# Altium integrated library ST Memory EEPROM Serial.IntLib: 637 symbols (part 2 of 7)
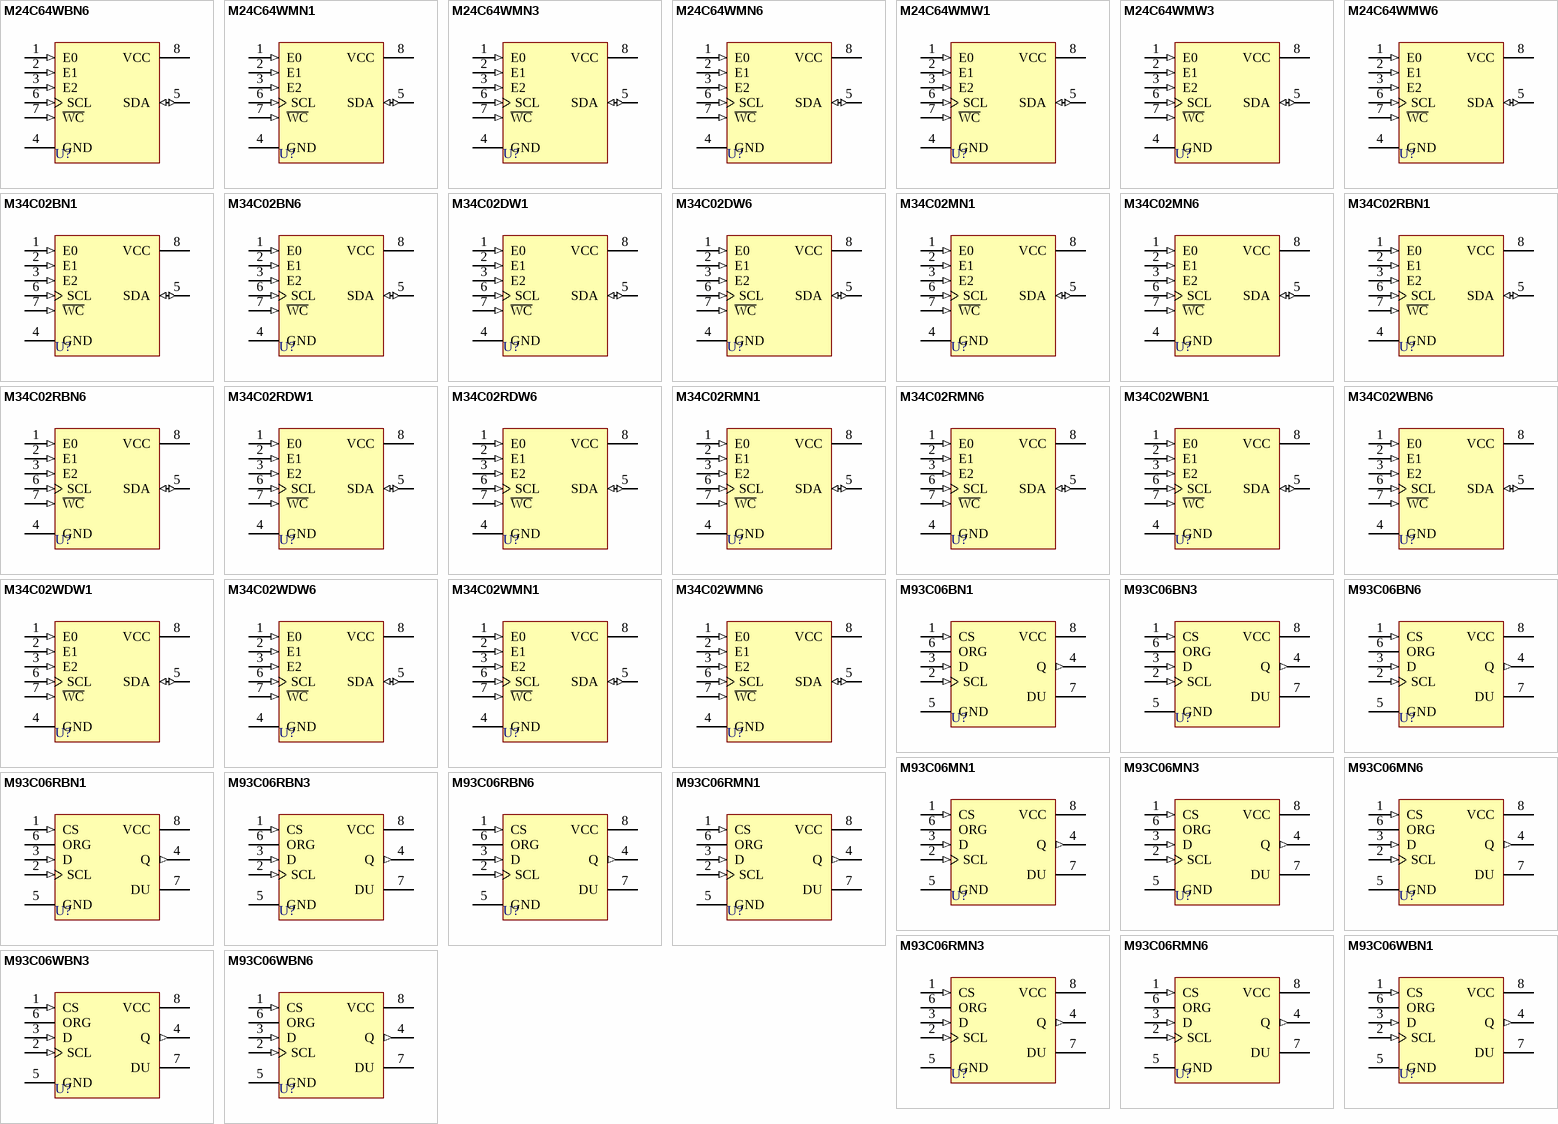
[diagram p16: symbols M24C64WBN6 to M93C06WBN6]

## M93C06MN1
designator U?
256Kb (x8/x16) Serial Microwire Bus EEPROM; Note: Do Not Use pin number 7 (DU).; Published: 24-Aug-2001; LatestRevisionDate: 17-Jul-2002; LatestRevisionNote: Re-released for DXP Platform.; DatasheetDocument: Feb-1999; PackageDocument: Jul-1999; PackageReference: SOP8; Publisher: Altium Limited
footprint SOP8 (Small Outline; 8 Leads; Body Width 3.9 mm; Pitch 1.27 mm)
pins: 1 CS (in), 2 SCL (in), 3 D (in), 4 Q (out), 5 GND (power), 6 ORG, 7 DU, 8 VCC (power)

## M93C06MN3
designator U?
256Kb (x8/x16) Serial Microwire Bus EEPROM; Note: Do Not Use pin number 7 (DU).; Published: 24-Aug-2001; LatestRevisionDate: 17-Jul-2002; LatestRevisionNote: Re-released for DXP Platform.; DatasheetDocument: Feb-1999; PackageDocument: Jul-1999; PackageReference: SOP8; Publisher: Altium Limited
footprint SOP8 (Small Outline; 8 Leads; Body Width 3.9 mm; Pitch 1.27 mm)
pins: 1 CS (in), 2 SCL (in), 3 D (in), 4 Q (out), 5 GND (power), 6 ORG, 7 DU, 8 VCC (power)

## M93C06MN6
designator U?
256Kb (x8/x16) Serial Microwire Bus EEPROM; Note: Do Not Use pin number 7 (DU).; Published: 24-Aug-2001; LatestRevisionDate: 17-Jul-2002; LatestRevisionNote: Re-released for DXP Platform.; DatasheetDocument: Feb-1999; PackageDocument: Jul-1999; PackageReference: SOP8; Publisher: Altium Limited
footprint SOP8 (Small Outline; 8 Leads; Body Width 3.9 mm; Pitch 1.27 mm)
pins: 1 CS (in), 2 SCL (in), 3 D (in), 4 Q (out), 5 GND (power), 6 ORG, 7 DU, 8 VCC (power)

## M93C06RBN1
designator U?
256Kb (x8/x16) Serial Microwire Bus EEPROM; Note: Do Not Use pin number 7 (DU).; Published: 24-Aug-2001; LatestRevisionDate: 17-Jul-2002; LatestRevisionNote: Re-released for DXP Platform.; DatasheetDocument: Feb-1999; PackageDocument: Jun-1998; PackageReference: PSDIP8A; Publisher: Altium Limited
footprint PSDIP8A (DIP; 8 Leads; Row Spacing 7.62 mm; Pitch 2.54 mm)
pins: 1 CS (in), 2 SCL (in), 3 D (in), 4 Q (out), 5 GND (power), 6 ORG, 7 DU, 8 VCC (power)

## M93C06RBN3
designator U?
256Kb (x8/x16) Serial Microwire Bus EEPROM; Note: Do Not Use pin number 7 (DU).; Published: 24-Aug-2001; LatestRevisionDate: 17-Jul-2002; LatestRevisionNote: Re-released for DXP Platform.; DatasheetDocument: Feb-1999; PackageDocument: Jun-1998; PackageReference: PSDIP8A; Publisher: Altium Limited
footprint PSDIP8A (DIP; 8 Leads; Row Spacing 7.62 mm; Pitch 2.54 mm)
pins: 1 CS (in), 2 SCL (in), 3 D (in), 4 Q (out), 5 GND (power), 6 ORG, 7 DU, 8 VCC (power)

## M93C06RBN6
designator U?
256Kb (x8/x16) Serial Microwire Bus EEPROM; Note: Do Not Use pin number 7 (DU).; Published: 24-Aug-2001; LatestRevisionDate: 17-Jul-2002; LatestRevisionNote: Re-released for DXP Platform.; DatasheetDocument: Feb-1999; PackageDocument: Jun-1998; PackageReference: PSDIP8A; Publisher: Altium Limited
footprint PSDIP8A (DIP; 8 Leads; Row Spacing 7.62 mm; Pitch 2.54 mm)
pins: 1 CS (in), 2 SCL (in), 3 D (in), 4 Q (out), 5 GND (power), 6 ORG, 7 DU, 8 VCC (power)

## M93C06RMN1
designator U?
256Kb (x8/x16) Serial Microwire Bus EEPROM; Note: Do Not Use pin number 7 (DU).; Published: 24-Aug-2001; LatestRevisionDate: 17-Jul-2002; LatestRevisionNote: Re-released for DXP Platform.; DatasheetDocument: Feb-1999; PackageDocument: Jul-1999; PackageReference: SOP8; Publisher: Altium Limited
footprint SOP8 (Small Outline; 8 Leads; Body Width 3.9 mm; Pitch 1.27 mm)
pins: 1 CS (in), 2 SCL (in), 3 D (in), 4 Q (out), 5 GND (power), 6 ORG, 7 DU, 8 VCC (power)

## M93C06RMN3
designator U?
256Kb (x8/x16) Serial Microwire Bus EEPROM; Note: Do Not Use pin number 7 (DU).; Published: 24-Aug-2001; LatestRevisionDate: 17-Jul-2002; LatestRevisionNote: Re-released for DXP Platform.; DatasheetDocument: Feb-1999; PackageDocument: Jul-1999; PackageReference: SOP8; Publisher: Altium Limited
footprint SOP8 (Small Outline; 8 Leads; Body Width 3.9 mm; Pitch 1.27 mm)
pins: 1 CS (in), 2 SCL (in), 3 D (in), 4 Q (out), 5 GND (power), 6 ORG, 7 DU, 8 VCC (power)

## M93C06RMN6
designator U?
256Kb (x8/x16) Serial Microwire Bus EEPROM; Note: Do Not Use pin number 7 (DU).; Published: 24-Aug-2001; LatestRevisionDate: 17-Jul-2002; LatestRevisionNote: Re-released for DXP Platform.; DatasheetDocument: Feb-1999; PackageDocument: Jul-1999; PackageReference: SOP8; Publisher: Altium Limited
footprint SOP8 (Small Outline; 8 Leads; Body Width 3.9 mm; Pitch 1.27 mm)
pins: 1 CS (in), 2 SCL (in), 3 D (in), 4 Q (out), 5 GND (power), 6 ORG, 7 DU, 8 VCC (power)

## M93C06WBN1
designator U?
256Kb (x8/x16) Serial Microwire Bus EEPROM; Note: Do Not Use pin number 7 (DU).; Published: 24-Aug-2001; LatestRevisionDate: 17-Jul-2002; LatestRevisionNote: Re-released for DXP Platform.; DatasheetDocument: Feb-1999; PackageDocument: Jun-1998; PackageReference: PSDIP8A; Publisher: Altium Limited
footprint PSDIP8A (DIP; 8 Leads; Row Spacing 7.62 mm; Pitch 2.54 mm)
pins: 1 CS (in), 2 SCL (in), 3 D (in), 4 Q (out), 5 GND (power), 6 ORG, 7 DU, 8 VCC (power)

## M93C06WBN3
designator U?
256Kb (x8/x16) Serial Microwire Bus EEPROM; Note: Do Not Use pin number 7 (DU).; Published: 24-Aug-2001; LatestRevisionDate: 17-Jul-2002; LatestRevisionNote: Re-released for DXP Platform.; DatasheetDocument: Feb-1999; PackageDocument: Jun-1998; PackageReference: PSDIP8A; Publisher: Altium Limited
footprint PSDIP8A (DIP; 8 Leads; Row Spacing 7.62 mm; Pitch 2.54 mm)
pins: 1 CS (in), 2 SCL (in), 3 D (in), 4 Q (out), 5 GND (power), 6 ORG, 7 DU, 8 VCC (power)

## M93C06WBN6
designator U?
256Kb (x8/x16) Serial Microwire Bus EEPROM; Note: Do Not Use pin number 7 (DU).; Published: 24-Aug-2001; LatestRevisionDate: 17-Jul-2002; LatestRevisionNote: Re-released for DXP Platform.; DatasheetDocument: Feb-1999; PackageDocument: Jun-1998; PackageReference: PSDIP8A; Publisher: Altium Limited
footprint PSDIP8A (DIP; 8 Leads; Row Spacing 7.62 mm; Pitch 2.54 mm)
pins: 1 CS (in), 2 SCL (in), 3 D (in), 4 Q (out), 5 GND (power), 6 ORG, 7 DU, 8 VCC (power)

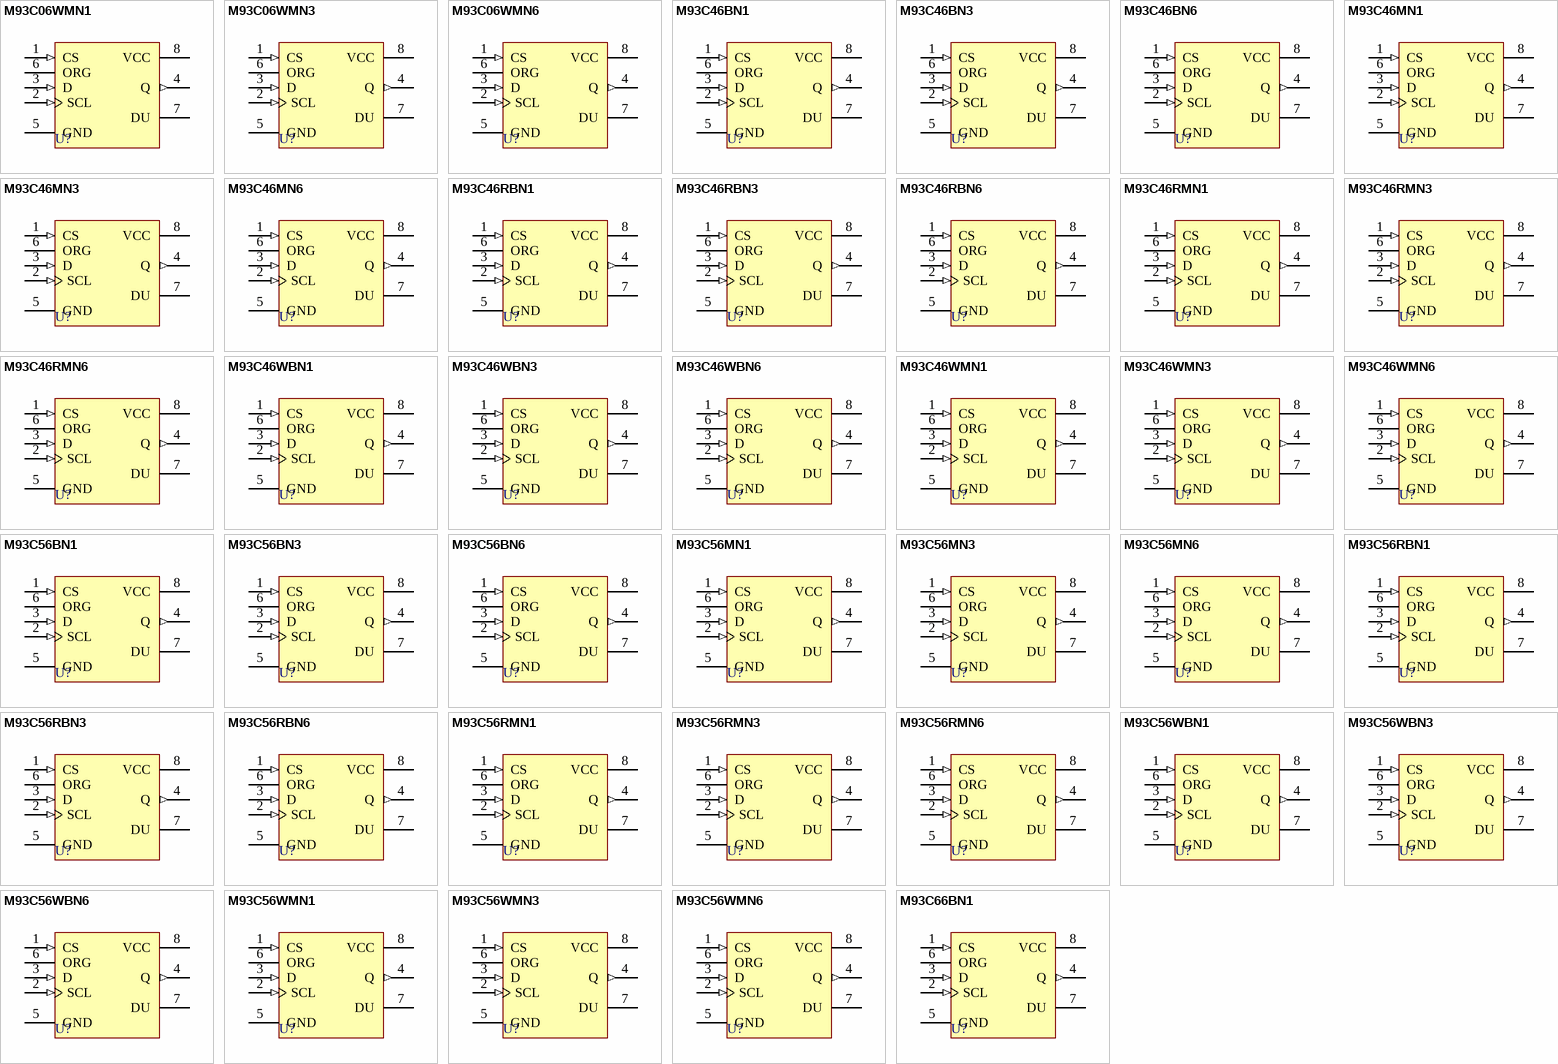
[diagram p3: symbols M93C06WMN1 to M93C66BN1]

## M93C06WMN1
designator U?
256Kb (x8/x16) Serial Microwire Bus EEPROM; Note: Do Not Use pin number 7 (DU).; Published: 24-Aug-2001; LatestRevisionDate: 17-Jul-2002; LatestRevisionNote: Re-released for DXP Platform.; DatasheetDocument: Feb-1999; PackageDocument: Jul-1999; PackageReference: SOP8; Publisher: Altium Limited
footprint SOP8 (Small Outline; 8 Leads; Body Width 3.9 mm; Pitch 1.27 mm)
pins: 1 CS (in), 2 SCL (in), 3 D (in), 4 Q (out), 5 GND (power), 6 ORG, 7 DU, 8 VCC (power)

## M93C06WMN3
designator U?
256Kb (x8/x16) Serial Microwire Bus EEPROM; Note: Do Not Use pin number 7 (DU).; Published: 24-Aug-2001; LatestRevisionDate: 17-Jul-2002; LatestRevisionNote: Re-released for DXP Platform.; DatasheetDocument: Feb-1999; PackageDocument: Jul-1999; PackageReference: SOP8; Publisher: Altium Limited
footprint SOP8 (Small Outline; 8 Leads; Body Width 3.9 mm; Pitch 1.27 mm)
pins: 1 CS (in), 2 SCL (in), 3 D (in), 4 Q (out), 5 GND (power), 6 ORG, 7 DU, 8 VCC (power)

## M93C06WMN6
designator U?
256Kb (x8/x16) Serial Microwire Bus EEPROM; Note: Do Not Use pin number 7 (DU).; Published: 24-Aug-2001; LatestRevisionDate: 17-Jul-2002; LatestRevisionNote: Re-released for DXP Platform.; DatasheetDocument: Feb-1999; PackageDocument: Jul-1999; PackageReference: SOP8; Publisher: Altium Limited
footprint SOP8 (Small Outline; 8 Leads; Body Width 3.9 mm; Pitch 1.27 mm)
pins: 1 CS (in), 2 SCL (in), 3 D (in), 4 Q (out), 5 GND (power), 6 ORG, 7 DU, 8 VCC (power)

## M93C46BN1
designator U?
1Kb (x8/x16) Serial Microwire Bus EEPROM; Note: Do Not Use pin number 7 (DU).; Published: 24-Aug-2001; LatestRevisionDate: 17-Jul-2002; LatestRevisionNote: Re-released for DXP Platform.; DatasheetDocument: Feb-1999; PackageDocument: Jun-1998; PackageReference: PSDIP8A; Publisher: Altium Limited
footprint PSDIP8A (DIP; 8 Leads; Row Spacing 7.62 mm; Pitch 2.54 mm)
pins: 1 CS (in), 2 SCL (in), 3 D (in), 4 Q (out), 5 GND (power), 6 ORG, 7 DU, 8 VCC (power)

## M93C46BN3
designator U?
1Kb (x8/x16) Serial Microwire Bus EEPROM; Note: Do Not Use pin number 7 (DU).; Published: 24-Aug-2001; LatestRevisionDate: 17-Jul-2002; LatestRevisionNote: Re-released for DXP Platform.; DatasheetDocument: Feb-1999; PackageDocument: Jun-1998; PackageReference: PSDIP8A; Publisher: Altium Limited
footprint PSDIP8A (DIP; 8 Leads; Row Spacing 7.62 mm; Pitch 2.54 mm)
pins: 1 CS (in), 2 SCL (in), 3 D (in), 4 Q (out), 5 GND (power), 6 ORG, 7 DU, 8 VCC (power)

## M93C46BN6
designator U?
1Kb (x8/x16) Serial Microwire Bus EEPROM; Note: Do Not Use pin number 7 (DU).; Published: 24-Aug-2001; LatestRevisionDate: 17-Jul-2002; LatestRevisionNote: Re-released for DXP Platform.; DatasheetDocument: Feb-1999; PackageDocument: Jun-1998; PackageReference: PSDIP8A; Publisher: Altium Limited
footprint PSDIP8A (DIP; 8 Leads; Row Spacing 7.62 mm; Pitch 2.54 mm)
pins: 1 CS (in), 2 SCL (in), 3 D (in), 4 Q (out), 5 GND (power), 6 ORG, 7 DU, 8 VCC (power)

## M93C46MN1
designator U?
1Kb (x8/x16) Serial Microwire Bus EEPROM; Note: Do Not Use pin number 7 (DU).; Published: 24-Aug-2001; LatestRevisionDate: 17-Jul-2002; LatestRevisionNote: Re-released for DXP Platform.; DatasheetDocument: Feb-1999; PackageDocument: Jul-1999; PackageReference: SOP8; Publisher: Altium Limited
footprint SOP8 (Small Outline; 8 Leads; Body Width 3.9 mm; Pitch 1.27 mm)
pins: 1 CS (in), 2 SCL (in), 3 D (in), 4 Q (out), 5 GND (power), 6 ORG, 7 DU, 8 VCC (power)

## M93C46MN3
designator U?
1Kb (x8/x16) Serial Microwire Bus EEPROM; Note: Do Not Use pin number 7 (DU).; Published: 24-Aug-2001; LatestRevisionDate: 17-Jul-2002; LatestRevisionNote: Re-released for DXP Platform.; DatasheetDocument: Feb-1999; PackageDocument: Jul-1999; PackageReference: SOP8; Publisher: Altium Limited
footprint SOP8 (Small Outline; 8 Leads; Body Width 3.9 mm; Pitch 1.27 mm)
pins: 1 CS (in), 2 SCL (in), 3 D (in), 4 Q (out), 5 GND (power), 6 ORG, 7 DU, 8 VCC (power)

## M93C46MN6
designator U?
1Kb (x8/x16) Serial Microwire Bus EEPROM; Note: Do Not Use pin number 7 (DU).; Published: 24-Aug-2001; LatestRevisionDate: 17-Jul-2002; LatestRevisionNote: Re-released for DXP Platform.; DatasheetDocument: Feb-1999; PackageDocument: Jul-1999; PackageReference: SOP8; Publisher: Altium Limited
footprint SOP8 (Small Outline; 8 Leads; Body Width 3.9 mm; Pitch 1.27 mm)
pins: 1 CS (in), 2 SCL (in), 3 D (in), 4 Q (out), 5 GND (power), 6 ORG, 7 DU, 8 VCC (power)

## M93C46RBN1
designator U?
1Kb (x8/x16) Serial Microwire Bus EEPROM; Note: Do Not Use pin number 7 (DU).; Published: 24-Aug-2001; LatestRevisionDate: 17-Jul-2002; LatestRevisionNote: Re-released for DXP Platform.; DatasheetDocument: Feb-1999; PackageDocument: Jun-1998; PackageReference: PSDIP8A; Publisher: Altium Limited
footprint PSDIP8A (DIP; 8 Leads; Row Spacing 7.62 mm; Pitch 2.54 mm)
pins: 1 CS (in), 2 SCL (in), 3 D (in), 4 Q (out), 5 GND (power), 6 ORG, 7 DU, 8 VCC (power)

## M93C46RBN3
designator U?
1Kb (x8/x16) Serial Microwire Bus EEPROM; Note: Do Not Use pin number 7 (DU).; Published: 24-Aug-2001; LatestRevisionDate: 17-Jul-2002; LatestRevisionNote: Re-released for DXP Platform.; DatasheetDocument: Feb-1999; PackageDocument: Jun-1998; PackageReference: PSDIP8A; Publisher: Altium Limited
footprint PSDIP8A (DIP; 8 Leads; Row Spacing 7.62 mm; Pitch 2.54 mm)
pins: 1 CS (in), 2 SCL (in), 3 D (in), 4 Q (out), 5 GND (power), 6 ORG, 7 DU, 8 VCC (power)

## M93C46RBN6
designator U?
1Kb (x8/x16) Serial Microwire Bus EEPROM; Note: Do Not Use pin number 7 (DU).; Published: 24-Aug-2001; LatestRevisionDate: 17-Jul-2002; LatestRevisionNote: Re-released for DXP Platform.; DatasheetDocument: Feb-1999; PackageDocument: Jun-1998; PackageReference: PSDIP8A; Publisher: Altium Limited
footprint PSDIP8A (DIP; 8 Leads; Row Spacing 7.62 mm; Pitch 2.54 mm)
pins: 1 CS (in), 2 SCL (in), 3 D (in), 4 Q (out), 5 GND (power), 6 ORG, 7 DU, 8 VCC (power)

## M93C46RMN1
designator U?
1Kb (x8/x16) Serial Microwire Bus EEPROM; Note: Do Not Use pin number 7 (DU).; Published: 24-Aug-2001; LatestRevisionDate: 17-Jul-2002; LatestRevisionNote: Re-released for DXP Platform.; DatasheetDocument: Feb-1999; PackageDocument: Jul-1999; PackageReference: SOP8; Publisher: Altium Limited
footprint SOP8 (Small Outline; 8 Leads; Body Width 3.9 mm; Pitch 1.27 mm)
pins: 1 CS (in), 2 SCL (in), 3 D (in), 4 Q (out), 5 GND (power), 6 ORG, 7 DU, 8 VCC (power)

## M93C46RMN3
designator U?
1Kb (x8/x16) Serial Microwire Bus EEPROM; Note: Do Not Use pin number 7 (DU).; Published: 24-Aug-2001; LatestRevisionDate: 17-Jul-2002; LatestRevisionNote: Re-released for DXP Platform.; DatasheetDocument: Feb-1999; PackageDocument: Jul-1999; PackageReference: SOP8; Publisher: Altium Limited
footprint SOP8 (Small Outline; 8 Leads; Body Width 3.9 mm; Pitch 1.27 mm)
pins: 1 CS (in), 2 SCL (in), 3 D (in), 4 Q (out), 5 GND (power), 6 ORG, 7 DU, 8 VCC (power)

## M93C46RMN6
designator U?
1Kb (x8/x16) Serial Microwire Bus EEPROM; Note: Do Not Use pin number 7 (DU).; Published: 24-Aug-2001; LatestRevisionDate: 17-Jul-2002; LatestRevisionNote: Re-released for DXP Platform.; DatasheetDocument: Feb-1999; PackageDocument: Jul-1999; PackageReference: SOP8; Publisher: Altium Limited
footprint SOP8 (Small Outline; 8 Leads; Body Width 3.9 mm; Pitch 1.27 mm)
pins: 1 CS (in), 2 SCL (in), 3 D (in), 4 Q (out), 5 GND (power), 6 ORG, 7 DU, 8 VCC (power)

## M93C46WBN1
designator U?
1Kb (x8/x16) Serial Microwire Bus EEPROM; Note: Do Not Use pin number 7 (DU).; Published: 24-Aug-2001; LatestRevisionDate: 17-Jul-2002; LatestRevisionNote: Re-released for DXP Platform.; DatasheetDocument: Feb-1999; PackageDocument: Jun-1998; PackageReference: PSDIP8A; Publisher: Altium Limited
footprint PSDIP8A (DIP; 8 Leads; Row Spacing 7.62 mm; Pitch 2.54 mm)
pins: 1 CS (in), 2 SCL (in), 3 D (in), 4 Q (out), 5 GND (power), 6 ORG, 7 DU, 8 VCC (power)

## M93C46WBN3
designator U?
1Kb (x8/x16) Serial Microwire Bus EEPROM; Note: Do Not Use pin number 7 (DU).; Published: 24-Aug-2001; LatestRevisionDate: 17-Jul-2002; LatestRevisionNote: Re-released for DXP Platform.; DatasheetDocument: Feb-1999; PackageDocument: Jun-1998; PackageReference: PSDIP8A; Publisher: Altium Limited
footprint PSDIP8A (DIP; 8 Leads; Row Spacing 7.62 mm; Pitch 2.54 mm)
pins: 1 CS (in), 2 SCL (in), 3 D (in), 4 Q (out), 5 GND (power), 6 ORG, 7 DU, 8 VCC (power)

## M93C46WBN6
designator U?
1Kb (x8/x16) Serial Microwire Bus EEPROM; Note: Do Not Use pin number 7 (DU).; Published: 24-Aug-2001; LatestRevisionDate: 17-Jul-2002; LatestRevisionNote: Re-released for DXP Platform.; DatasheetDocument: Feb-1999; PackageDocument: Jun-1998; PackageReference: PSDIP8A; Publisher: Altium Limited
footprint PSDIP8A (DIP; 8 Leads; Row Spacing 7.62 mm; Pitch 2.54 mm)
pins: 1 CS (in), 2 SCL (in), 3 D (in), 4 Q (out), 5 GND (power), 6 ORG, 7 DU, 8 VCC (power)

## M93C46WMN1
designator U?
1Kb (x8/x16) Serial Microwire Bus EEPROM; Note: Do Not Use pin number 7 (DU).; Published: 24-Aug-2001; LatestRevisionDate: 17-Jul-2002; LatestRevisionNote: Re-released for DXP Platform.; DatasheetDocument: Feb-1999; PackageDocument: Jul-1999; PackageReference: SOP8; Publisher: Altium Limited
footprint SOP8 (Small Outline; 8 Leads; Body Width 3.9 mm; Pitch 1.27 mm)
pins: 1 CS (in), 2 SCL (in), 3 D (in), 4 Q (out), 5 GND (power), 6 ORG, 7 DU, 8 VCC (power)

## M93C46WMN3
designator U?
1Kb (x8/x16) Serial Microwire Bus EEPROM; Note: Do Not Use pin number 7 (DU).; Published: 24-Aug-2001; LatestRevisionDate: 17-Jul-2002; LatestRevisionNote: Re-released for DXP Platform.; DatasheetDocument: Feb-1999; PackageDocument: Jul-1999; PackageReference: SOP8; Publisher: Altium Limited
footprint SOP8 (Small Outline; 8 Leads; Body Width 3.9 mm; Pitch 1.27 mm)
pins: 1 CS (in), 2 SCL (in), 3 D (in), 4 Q (out), 5 GND (power), 6 ORG, 7 DU, 8 VCC (power)

## M93C46WMN6
designator U?
1Kb (x8/x16) Serial Microwire Bus EEPROM; Note: Do Not Use pin number 7 (DU).; Published: 24-Aug-2001; LatestRevisionDate: 17-Jul-2002; LatestRevisionNote: Re-released for DXP Platform.; DatasheetDocument: Feb-1999; PackageDocument: Jul-1999; PackageReference: SOP8; Publisher: Altium Limited
footprint SOP8 (Small Outline; 8 Leads; Body Width 3.9 mm; Pitch 1.27 mm)
pins: 1 CS (in), 2 SCL (in), 3 D (in), 4 Q (out), 5 GND (power), 6 ORG, 7 DU, 8 VCC (power)

## M93C56BN1
designator U?
2Kb (x8/x16) Serial Microwire Bus EEPROM; Note: Do Not Use pin number 7 (DU).; Published: 24-Aug-2001; LatestRevisionDate: 17-Jul-2002; LatestRevisionNote: Re-released for DXP Platform.; DatasheetDocument: Feb-1999; PackageDocument: Jun-1998; PackageReference: PSDIP8A; Publisher: Altium Limited
footprint PSDIP8A (DIP; 8 Leads; Row Spacing 7.62 mm; Pitch 2.54 mm)
pins: 1 CS (in), 2 SCL (in), 3 D (in), 4 Q (out), 5 GND (power), 6 ORG, 7 DU, 8 VCC (power)

## M93C56BN3
designator U?
2Kb (x8/x16) Serial Microwire Bus EEPROM; Note: Do Not Use pin number 7 (DU).; Published: 24-Aug-2001; LatestRevisionDate: 17-Jul-2002; LatestRevisionNote: Re-released for DXP Platform.; DatasheetDocument: Feb-1999; PackageDocument: Jun-1998; PackageReference: PSDIP8A; Publisher: Altium Limited
footprint PSDIP8A (DIP; 8 Leads; Row Spacing 7.62 mm; Pitch 2.54 mm)
pins: 1 CS (in), 2 SCL (in), 3 D (in), 4 Q (out), 5 GND (power), 6 ORG, 7 DU, 8 VCC (power)

## M93C56BN6
designator U?
2Kb (x8/x16) Serial Microwire Bus EEPROM; Note: Do Not Use pin number 7 (DU).; Published: 24-Aug-2001; LatestRevisionDate: 17-Jul-2002; LatestRevisionNote: Re-released for DXP Platform.; DatasheetDocument: Feb-1999; PackageDocument: Jun-1998; PackageReference: PSDIP8A; Publisher: Altium Limited
footprint PSDIP8A (DIP; 8 Leads; Row Spacing 7.62 mm; Pitch 2.54 mm)
pins: 1 CS (in), 2 SCL (in), 3 D (in), 4 Q (out), 5 GND (power), 6 ORG, 7 DU, 8 VCC (power)

## M93C56MN1
designator U?
2Kb (x8/x16) Serial Microwire Bus EEPROM; Note: Do Not Use pin number 7 (DU).; Published: 24-Aug-2001; LatestRevisionDate: 17-Jul-2002; LatestRevisionNote: Re-released for DXP Platform.; DatasheetDocument: Feb-1999; PackageDocument: Jul-1999; PackageReference: SOP8; Publisher: Altium Limited
footprint SOP8 (Small Outline; 8 Leads; Body Width 3.9 mm; Pitch 1.27 mm)
pins: 1 CS (in), 2 SCL (in), 3 D (in), 4 Q (out), 5 GND (power), 6 ORG, 7 DU, 8 VCC (power)

## M93C56MN3
designator U?
2Kb (x8/x16) Serial Microwire Bus EEPROM; Note: Do Not Use pin number 7 (DU).; Published: 24-Aug-2001; LatestRevisionDate: 17-Jul-2002; LatestRevisionNote: Re-released for DXP Platform.; DatasheetDocument: Feb-1999; PackageDocument: Jul-1999; PackageReference: SOP8; Publisher: Altium Limited
footprint SOP8 (Small Outline; 8 Leads; Body Width 3.9 mm; Pitch 1.27 mm)
pins: 1 CS (in), 2 SCL (in), 3 D (in), 4 Q (out), 5 GND (power), 6 ORG, 7 DU, 8 VCC (power)

## M93C56MN6
designator U?
2Kb (x8/x16) Serial Microwire Bus EEPROM; Note: Do Not Use pin number 7 (DU).; Published: 24-Aug-2001; LatestRevisionDate: 17-Jul-2002; LatestRevisionNote: Re-released for DXP Platform.; DatasheetDocument: Feb-1999; PackageDocument: Jul-1999; PackageReference: SOP8; Publisher: Altium Limited
footprint SOP8 (Small Outline; 8 Leads; Body Width 3.9 mm; Pitch 1.27 mm)
pins: 1 CS (in), 2 SCL (in), 3 D (in), 4 Q (out), 5 GND (power), 6 ORG, 7 DU, 8 VCC (power)

## M93C56RBN1
designator U?
2Kb (x8/x16) Serial Microwire Bus EEPROM; Note: Do Not Use pin number 7 (DU).; Published: 24-Aug-2001; LatestRevisionDate: 17-Jul-2002; LatestRevisionNote: Re-released for DXP Platform.; DatasheetDocument: Feb-1999; PackageDocument: Jun-1998; PackageReference: PSDIP8A; Publisher: Altium Limited
footprint PSDIP8A (DIP; 8 Leads; Row Spacing 7.62 mm; Pitch 2.54 mm)
pins: 1 CS (in), 2 SCL (in), 3 D (in), 4 Q (out), 5 GND (power), 6 ORG, 7 DU, 8 VCC (power)

## M93C56RBN3
designator U?
2Kb (x8/x16) Serial Microwire Bus EEPROM; Note: Do Not Use pin number 7 (DU).; Published: 24-Aug-2001; LatestRevisionDate: 17-Jul-2002; LatestRevisionNote: Re-released for DXP Platform.; DatasheetDocument: Feb-1999; PackageDocument: Jun-1998; PackageReference: PSDIP8A; Publisher: Altium Limited
footprint PSDIP8A (DIP; 8 Leads; Row Spacing 7.62 mm; Pitch 2.54 mm)
pins: 1 CS (in), 2 SCL (in), 3 D (in), 4 Q (out), 5 GND (power), 6 ORG, 7 DU, 8 VCC (power)

## M93C56RBN6
designator U?
2Kb (x8/x16) Serial Microwire Bus EEPROM; Note: Do Not Use pin number 7 (DU).; Published: 24-Aug-2001; LatestRevisionDate: 17-Jul-2002; LatestRevisionNote: Re-released for DXP Platform.; DatasheetDocument: Feb-1999; PackageDocument: Jun-1998; PackageReference: PSDIP8A; Publisher: Altium Limited
footprint PSDIP8A (DIP; 8 Leads; Row Spacing 7.62 mm; Pitch 2.54 mm)
pins: 1 CS (in), 2 SCL (in), 3 D (in), 4 Q (out), 5 GND (power), 6 ORG, 7 DU, 8 VCC (power)

## M93C56RMN1
designator U?
2Kb (x8/x16) Serial Microwire Bus EEPROM; Note: Do Not Use pin number 7 (DU).; Published: 24-Aug-2001; LatestRevisionDate: 17-Jul-2002; LatestRevisionNote: Re-released for DXP Platform.; DatasheetDocument: Feb-1999; PackageDocument: Jul-1999; PackageReference: SOP8; Publisher: Altium Limited
footprint SOP8 (Small Outline; 8 Leads; Body Width 3.9 mm; Pitch 1.27 mm)
pins: 1 CS (in), 2 SCL (in), 3 D (in), 4 Q (out), 5 GND (power), 6 ORG, 7 DU, 8 VCC (power)

## M93C56RMN3
designator U?
2Kb (x8/x16) Serial Microwire Bus EEPROM; Note: Do Not Use pin number 7 (DU).; Published: 24-Aug-2001; LatestRevisionDate: 17-Jul-2002; LatestRevisionNote: Re-released for DXP Platform.; DatasheetDocument: Feb-1999; PackageDocument: Jul-1999; PackageReference: SOP8; Publisher: Altium Limited
footprint SOP8 (Small Outline; 8 Leads; Body Width 3.9 mm; Pitch 1.27 mm)
pins: 1 CS (in), 2 SCL (in), 3 D (in), 4 Q (out), 5 GND (power), 6 ORG, 7 DU, 8 VCC (power)

## M93C56RMN6
designator U?
2Kb (x8/x16) Serial Microwire Bus EEPROM; Note: Do Not Use pin number 7 (DU).; Published: 24-Aug-2001; LatestRevisionDate: 17-Jul-2002; LatestRevisionNote: Re-released for DXP Platform.; DatasheetDocument: Feb-1999; PackageDocument: Jul-1999; PackageReference: SOP8; Publisher: Altium Limited
footprint SOP8 (Small Outline; 8 Leads; Body Width 3.9 mm; Pitch 1.27 mm)
pins: 1 CS (in), 2 SCL (in), 3 D (in), 4 Q (out), 5 GND (power), 6 ORG, 7 DU, 8 VCC (power)

## M93C56WBN1
designator U?
2Kb (x8/x16) Serial Microwire Bus EEPROM; Note: Do Not Use pin number 7 (DU).; Published: 24-Aug-2001; LatestRevisionDate: 17-Jul-2002; LatestRevisionNote: Re-released for DXP Platform.; DatasheetDocument: Feb-1999; PackageDocument: Jun-1998; PackageReference: PSDIP8A; Publisher: Altium Limited
footprint PSDIP8A (DIP; 8 Leads; Row Spacing 7.62 mm; Pitch 2.54 mm)
pins: 1 CS (in), 2 SCL (in), 3 D (in), 4 Q (out), 5 GND (power), 6 ORG, 7 DU, 8 VCC (power)

## M93C56WBN3
designator U?
2Kb (x8/x16) Serial Microwire Bus EEPROM; Note: Do Not Use pin number 7 (DU).; Published: 24-Aug-2001; LatestRevisionDate: 17-Jul-2002; LatestRevisionNote: Re-released for DXP Platform.; DatasheetDocument: Feb-1999; PackageDocument: Jun-1998; PackageReference: PSDIP8A; Publisher: Altium Limited
footprint PSDIP8A (DIP; 8 Leads; Row Spacing 7.62 mm; Pitch 2.54 mm)
pins: 1 CS (in), 2 SCL (in), 3 D (in), 4 Q (out), 5 GND (power), 6 ORG, 7 DU, 8 VCC (power)

## M93C56WBN6
designator U?
2Kb (x8/x16) Serial Microwire Bus EEPROM; Note: Do Not Use pin number 7 (DU).; Published: 24-Aug-2001; LatestRevisionDate: 17-Jul-2002; LatestRevisionNote: Re-released for DXP Platform.; DatasheetDocument: Feb-1999; PackageDocument: Jun-1998; PackageReference: PSDIP8A; Publisher: Altium Limited
footprint PSDIP8A (DIP; 8 Leads; Row Spacing 7.62 mm; Pitch 2.54 mm)
pins: 1 CS (in), 2 SCL (in), 3 D (in), 4 Q (out), 5 GND (power), 6 ORG, 7 DU, 8 VCC (power)

## M93C56WMN1
designator U?
2Kb (x8/x16) Serial Microwire Bus EEPROM; Note: Do Not Use pin number 7 (DU).; Published: 24-Aug-2001; LatestRevisionDate: 17-Jul-2002; LatestRevisionNote: Re-released for DXP Platform.; DatasheetDocument: Feb-1999; PackageDocument: Jul-1999; PackageReference: SOP8; Publisher: Altium Limited
footprint SOP8 (Small Outline; 8 Leads; Body Width 3.9 mm; Pitch 1.27 mm)
pins: 1 CS (in), 2 SCL (in), 3 D (in), 4 Q (out), 5 GND (power), 6 ORG, 7 DU, 8 VCC (power)

## M93C56WMN3
designator U?
2Kb (x8/x16) Serial Microwire Bus EEPROM; Note: Do Not Use pin number 7 (DU).; Published: 24-Aug-2001; LatestRevisionDate: 17-Jul-2002; LatestRevisionNote: Re-released for DXP Platform.; DatasheetDocument: Feb-1999; PackageDocument: Jul-1999; PackageReference: SOP8; Publisher: Altium Limited
footprint SOP8 (Small Outline; 8 Leads; Body Width 3.9 mm; Pitch 1.27 mm)
pins: 1 CS (in), 2 SCL (in), 3 D (in), 4 Q (out), 5 GND (power), 6 ORG, 7 DU, 8 VCC (power)

## M93C56WMN6
designator U?
2Kb (x8/x16) Serial Microwire Bus EEPROM; Note: Do Not Use pin number 7 (DU).; Published: 24-Aug-2001; LatestRevisionDate: 17-Jul-2002; LatestRevisionNote: Re-released for DXP Platform.; DatasheetDocument: Feb-1999; PackageDocument: Jul-1999; PackageReference: SOP8; Publisher: Altium Limited
footprint SOP8 (Small Outline; 8 Leads; Body Width 3.9 mm; Pitch 1.27 mm)
pins: 1 CS (in), 2 SCL (in), 3 D (in), 4 Q (out), 5 GND (power), 6 ORG, 7 DU, 8 VCC (power)

## M93C66BN1
designator U?
4Kb (x8/x16) Serial Microwire Bus EEPROM; Note: Do Not Use pin number 7 (DU).; Published: 24-Aug-2001; LatestRevisionDate: 17-Jul-2002; LatestRevisionNote: Re-released for DXP Platform.; DatasheetDocument: Feb-1999; PackageDocument: Jun-1998; PackageReference: PSDIP8A; Publisher: Altium Limited
footprint PSDIP8A (DIP; 8 Leads; Row Spacing 7.62 mm; Pitch 2.54 mm)
pins: 1 CS (in), 2 SCL (in), 3 D (in), 4 Q (out), 5 GND (power), 6 ORG, 7 DU, 8 VCC (power)

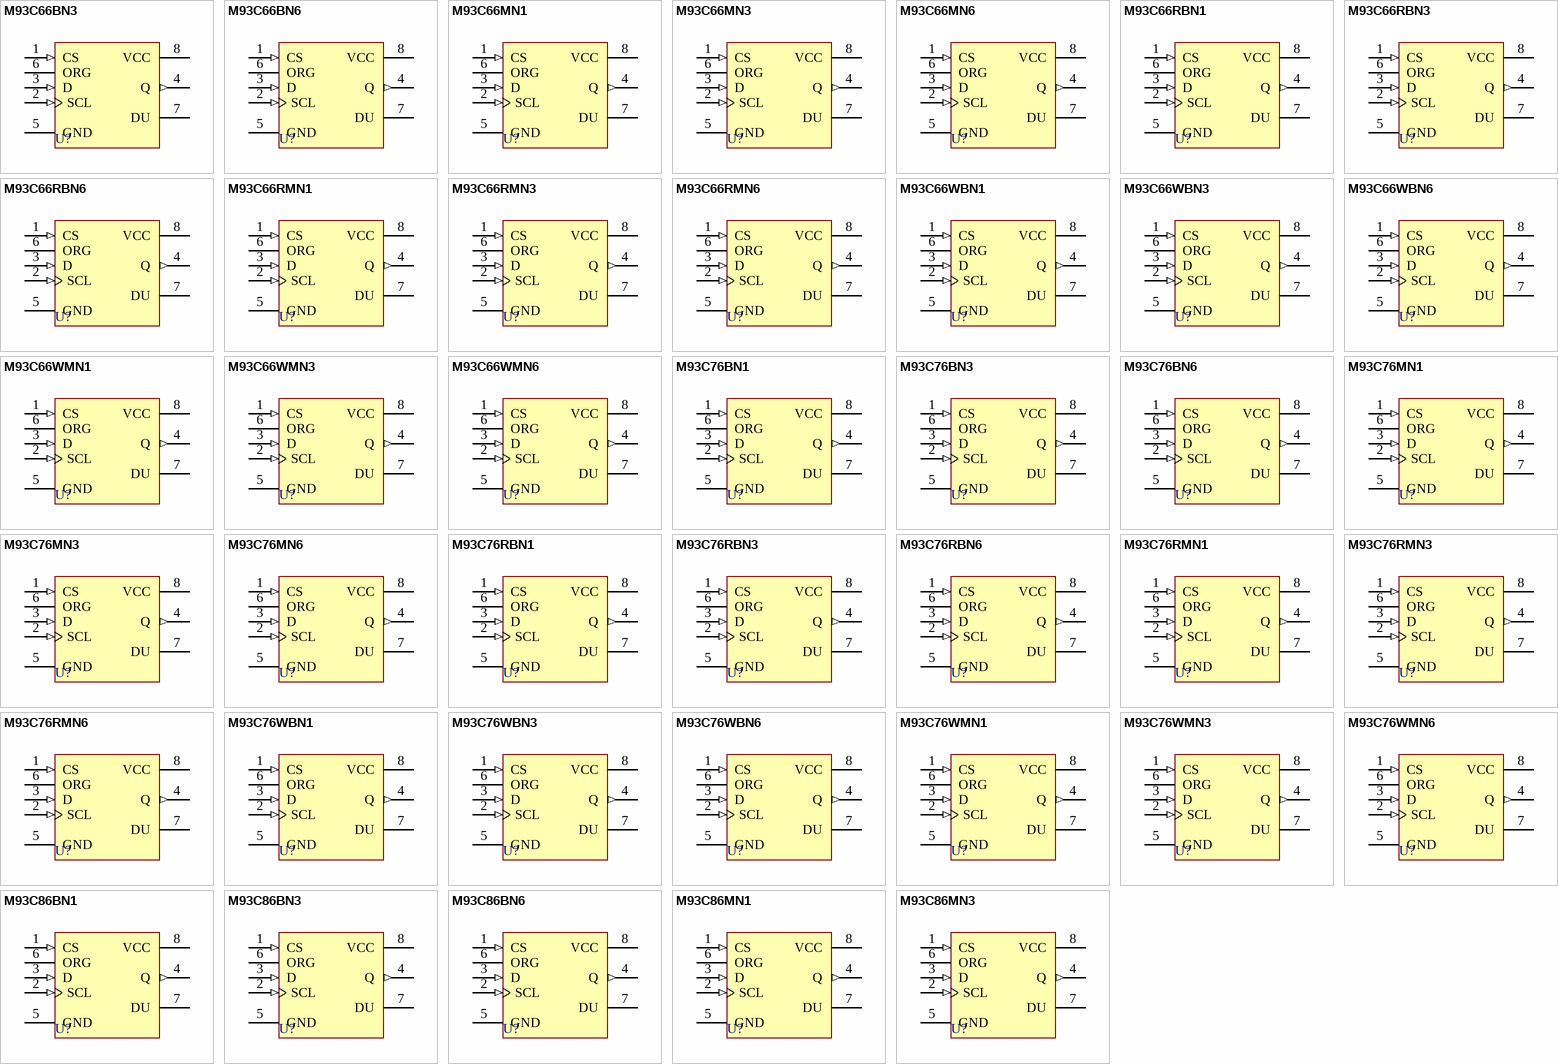
[diagram p4: symbols M93C66BN3 to M93C86MN3]

## M93C66BN3
designator U?
4Kb (x8/x16) Serial Microwire Bus EEPROM; Note: Do Not Use pin number 7 (DU).; Published: 24-Aug-2001; LatestRevisionDate: 17-Jul-2002; LatestRevisionNote: Re-released for DXP Platform.; DatasheetDocument: Feb-1999; PackageDocument: Jun-1998; PackageReference: PSDIP8A; Publisher: Altium Limited
footprint PSDIP8A (DIP; 8 Leads; Row Spacing 7.62 mm; Pitch 2.54 mm)
pins: 1 CS (in), 2 SCL (in), 3 D (in), 4 Q (out), 5 GND (power), 6 ORG, 7 DU, 8 VCC (power)

## M93C66BN6
designator U?
4Kb (x8/x16) Serial Microwire Bus EEPROM; Note: Do Not Use pin number 7 (DU).; Published: 24-Aug-2001; LatestRevisionDate: 17-Jul-2002; LatestRevisionNote: Re-released for DXP Platform.; DatasheetDocument: Feb-1999; PackageDocument: Jun-1998; PackageReference: PSDIP8A; Publisher: Altium Limited
footprint PSDIP8A (DIP; 8 Leads; Row Spacing 7.62 mm; Pitch 2.54 mm)
pins: 1 CS (in), 2 SCL (in), 3 D (in), 4 Q (out), 5 GND (power), 6 ORG, 7 DU, 8 VCC (power)

## M93C66MN1
designator U?
4Kb (x8/x16) Serial Microwire Bus EEPROM; Note: Do Not Use pin number 7 (DU).; Published: 24-Aug-2001; LatestRevisionDate: 17-Jul-2002; LatestRevisionNote: Re-released for DXP Platform.; DatasheetDocument: Feb-1999; PackageDocument: Jul-1999; PackageReference: SOP8; Publisher: Altium Limited
footprint SOP8 (Small Outline; 8 Leads; Body Width 3.9 mm; Pitch 1.27 mm)
pins: 1 CS (in), 2 SCL (in), 3 D (in), 4 Q (out), 5 GND (power), 6 ORG, 7 DU, 8 VCC (power)

## M93C66MN3
designator U?
4Kb (x8/x16) Serial Microwire Bus EEPROM; Note: Do Not Use pin number 7 (DU).; Published: 24-Aug-2001; LatestRevisionDate: 17-Jul-2002; LatestRevisionNote: Re-released for DXP Platform.; DatasheetDocument: Feb-1999; PackageDocument: Jul-1999; PackageReference: SOP8; Publisher: Altium Limited
footprint SOP8 (Small Outline; 8 Leads; Body Width 3.9 mm; Pitch 1.27 mm)
pins: 1 CS (in), 2 SCL (in), 3 D (in), 4 Q (out), 5 GND (power), 6 ORG, 7 DU, 8 VCC (power)

## M93C66MN6
designator U?
4Kb (x8/x16) Serial Microwire Bus EEPROM; Note: Do Not Use pin number 7 (DU).; Published: 24-Aug-2001; LatestRevisionDate: 17-Jul-2002; LatestRevisionNote: Re-released for DXP Platform.; DatasheetDocument: Feb-1999; PackageDocument: Jul-1999; PackageReference: SOP8; Publisher: Altium Limited
footprint SOP8 (Small Outline; 8 Leads; Body Width 3.9 mm; Pitch 1.27 mm)
pins: 1 CS (in), 2 SCL (in), 3 D (in), 4 Q (out), 5 GND (power), 6 ORG, 7 DU, 8 VCC (power)

## M93C66RBN1
designator U?
4Kb (x8/x16) Serial Microwire Bus EEPROM; Note: Do Not Use pin number 7 (DU).; Published: 24-Aug-2001; LatestRevisionDate: 17-Jul-2002; LatestRevisionNote: Re-released for DXP Platform.; DatasheetDocument: Feb-1999; PackageDocument: Jun-1998; PackageReference: PSDIP8A; Publisher: Altium Limited
footprint PSDIP8A (DIP; 8 Leads; Row Spacing 7.62 mm; Pitch 2.54 mm)
pins: 1 CS (in), 2 SCL (in), 3 D (in), 4 Q (out), 5 GND (power), 6 ORG, 7 DU, 8 VCC (power)

## M93C66RBN3
designator U?
4Kb (x8/x16) Serial Microwire Bus EEPROM; Note: Do Not Use pin number 7 (DU).; Published: 24-Aug-2001; LatestRevisionDate: 17-Jul-2002; LatestRevisionNote: Re-released for DXP Platform.; DatasheetDocument: Feb-1999; PackageDocument: Jun-1998; PackageReference: PSDIP8A; Publisher: Altium Limited
footprint PSDIP8A (DIP; 8 Leads; Row Spacing 7.62 mm; Pitch 2.54 mm)
pins: 1 CS (in), 2 SCL (in), 3 D (in), 4 Q (out), 5 GND (power), 6 ORG, 7 DU, 8 VCC (power)

## M93C66RBN6
designator U?
4Kb (x8/x16) Serial Microwire Bus EEPROM; Note: Do Not Use pin number 7 (DU).; Published: 24-Aug-2001; LatestRevisionDate: 17-Jul-2002; LatestRevisionNote: Re-released for DXP Platform.; DatasheetDocument: Feb-1999; PackageDocument: Jun-1998; PackageReference: PSDIP8A; Publisher: Altium Limited
footprint PSDIP8A (DIP; 8 Leads; Row Spacing 7.62 mm; Pitch 2.54 mm)
pins: 1 CS (in), 2 SCL (in), 3 D (in), 4 Q (out), 5 GND (power), 6 ORG, 7 DU, 8 VCC (power)

## M93C66RMN1
designator U?
4Kb (x8/x16) Serial Microwire Bus EEPROM; Note: Do Not Use pin number 7 (DU).; Published: 24-Aug-2001; LatestRevisionDate: 17-Jul-2002; LatestRevisionNote: Re-released for DXP Platform.; DatasheetDocument: Feb-1999; PackageDocument: Jul-1999; PackageReference: SOP8; Publisher: Altium Limited
footprint SOP8 (Small Outline; 8 Leads; Body Width 3.9 mm; Pitch 1.27 mm)
pins: 1 CS (in), 2 SCL (in), 3 D (in), 4 Q (out), 5 GND (power), 6 ORG, 7 DU, 8 VCC (power)

## M93C66RMN3
designator U?
4Kb (x8/x16) Serial Microwire Bus EEPROM; Note: Do Not Use pin number 7 (DU).; Published: 24-Aug-2001; LatestRevisionDate: 17-Jul-2002; LatestRevisionNote: Re-released for DXP Platform.; DatasheetDocument: Feb-1999; PackageDocument: Jul-1999; PackageReference: SOP8; Publisher: Altium Limited
footprint SOP8 (Small Outline; 8 Leads; Body Width 3.9 mm; Pitch 1.27 mm)
pins: 1 CS (in), 2 SCL (in), 3 D (in), 4 Q (out), 5 GND (power), 6 ORG, 7 DU, 8 VCC (power)

## M93C66RMN6
designator U?
4Kb (x8/x16) Serial Microwire Bus EEPROM; Note: Do Not Use pin number 7 (DU).; Published: 24-Aug-2001; LatestRevisionDate: 17-Jul-2002; LatestRevisionNote: Re-released for DXP Platform.; DatasheetDocument: Feb-1999; PackageDocument: Jul-1999; PackageReference: SOP8; Publisher: Altium Limited
footprint SOP8 (Small Outline; 8 Leads; Body Width 3.9 mm; Pitch 1.27 mm)
pins: 1 CS (in), 2 SCL (in), 3 D (in), 4 Q (out), 5 GND (power), 6 ORG, 7 DU, 8 VCC (power)

## M93C66WBN1
designator U?
4Kb (x8/x16) Serial Microwire Bus EEPROM; Note: Do Not Use pin number 7 (DU).; Published: 24-Aug-2001; LatestRevisionDate: 17-Jul-2002; LatestRevisionNote: Re-released for DXP Platform.; DatasheetDocument: Feb-1999; PackageDocument: Jun-1998; PackageReference: PSDIP8A; Publisher: Altium Limited
footprint PSDIP8A (DIP; 8 Leads; Row Spacing 7.62 mm; Pitch 2.54 mm)
pins: 1 CS (in), 2 SCL (in), 3 D (in), 4 Q (out), 5 GND (power), 6 ORG, 7 DU, 8 VCC (power)

## M93C66WBN3
designator U?
4Kb (x8/x16) Serial Microwire Bus EEPROM; Note: Do Not Use pin number 7 (DU).; Published: 24-Aug-2001; LatestRevisionDate: 17-Jul-2002; LatestRevisionNote: Re-released for DXP Platform.; DatasheetDocument: Feb-1999; PackageDocument: Jun-1998; PackageReference: PSDIP8A; Publisher: Altium Limited
footprint PSDIP8A (DIP; 8 Leads; Row Spacing 7.62 mm; Pitch 2.54 mm)
pins: 1 CS (in), 2 SCL (in), 3 D (in), 4 Q (out), 5 GND (power), 6 ORG, 7 DU, 8 VCC (power)

## M93C66WBN6
designator U?
4Kb (x8/x16) Serial Microwire Bus EEPROM; Note: Do Not Use pin number 7 (DU).; Published: 24-Aug-2001; LatestRevisionDate: 17-Jul-2002; LatestRevisionNote: Re-released for DXP Platform.; DatasheetDocument: Feb-1999; PackageDocument: Jun-1998; PackageReference: PSDIP8A; Publisher: Altium Limited
footprint PSDIP8A (DIP; 8 Leads; Row Spacing 7.62 mm; Pitch 2.54 mm)
pins: 1 CS (in), 2 SCL (in), 3 D (in), 4 Q (out), 5 GND (power), 6 ORG, 7 DU, 8 VCC (power)

## M93C66WMN1
designator U?
4Kb (x8/x16) Serial Microwire Bus EEPROM; Note: Do Not Use pin number 7 (DU).; Published: 24-Aug-2001; LatestRevisionDate: 17-Jul-2002; LatestRevisionNote: Re-released for DXP Platform.; DatasheetDocument: Feb-1999; PackageDocument: Jul-1999; PackageReference: SOP8; Publisher: Altium Limited
footprint SOP8 (Small Outline; 8 Leads; Body Width 3.9 mm; Pitch 1.27 mm)
pins: 1 CS (in), 2 SCL (in), 3 D (in), 4 Q (out), 5 GND (power), 6 ORG, 7 DU, 8 VCC (power)

## M93C66WMN3
designator U?
4Kb (x8/x16) Serial Microwire Bus EEPROM; Note: Do Not Use pin number 7 (DU).; Published: 24-Aug-2001; LatestRevisionDate: 17-Jul-2002; LatestRevisionNote: Re-released for DXP Platform.; DatasheetDocument: Feb-1999; PackageDocument: Jul-1999; PackageReference: SOP8; Publisher: Altium Limited
footprint SOP8 (Small Outline; 8 Leads; Body Width 3.9 mm; Pitch 1.27 mm)
pins: 1 CS (in), 2 SCL (in), 3 D (in), 4 Q (out), 5 GND (power), 6 ORG, 7 DU, 8 VCC (power)

## M93C66WMN6
designator U?
4Kb (x8/x16) Serial Microwire Bus EEPROM; Note: Do Not Use pin number 7 (DU).; Published: 24-Aug-2001; LatestRevisionDate: 17-Jul-2002; LatestRevisionNote: Re-released for DXP Platform.; DatasheetDocument: Feb-1999; PackageDocument: Jul-1999; PackageReference: SOP8; Publisher: Altium Limited
footprint SOP8 (Small Outline; 8 Leads; Body Width 3.9 mm; Pitch 1.27 mm)
pins: 1 CS (in), 2 SCL (in), 3 D (in), 4 Q (out), 5 GND (power), 6 ORG, 7 DU, 8 VCC (power)

## M93C76BN1
designator U?
8Kb (x8/x16) Serial Microwire Bus EEPROM; Note: Do Not Use pin number 7 (DU).; Published: 24-Aug-2001; LatestRevisionDate: 17-Jul-2002; LatestRevisionNote: Re-released for DXP Platform.; DatasheetDocument: Feb-1999; PackageDocument: Jun-1998; PackageReference: PSDIP8A; Publisher: Altium Limited
footprint PSDIP8A (DIP; 8 Leads; Row Spacing 7.62 mm; Pitch 2.54 mm)
pins: 1 CS (in), 2 SCL (in), 3 D (in), 4 Q (out), 5 GND (power), 6 ORG, 7 DU, 8 VCC (power)

## M93C76BN3
designator U?
8Kb (x8/x16) Serial Microwire Bus EEPROM; Note: Do Not Use pin number 7 (DU).; Published: 24-Aug-2001; LatestRevisionDate: 17-Jul-2002; LatestRevisionNote: Re-released for DXP Platform.; DatasheetDocument: Feb-1999; PackageDocument: Jun-1998; PackageReference: PSDIP8A; Publisher: Altium Limited
footprint PSDIP8A (DIP; 8 Leads; Row Spacing 7.62 mm; Pitch 2.54 mm)
pins: 1 CS (in), 2 SCL (in), 3 D (in), 4 Q (out), 5 GND (power), 6 ORG, 7 DU, 8 VCC (power)

## M93C76BN6
designator U?
8Kb (x8/x16) Serial Microwire Bus EEPROM; Note: Do Not Use pin number 7 (DU).; Published: 24-Aug-2001; LatestRevisionDate: 17-Jul-2002; LatestRevisionNote: Re-released for DXP Platform.; DatasheetDocument: Feb-1999; PackageDocument: Jun-1998; PackageReference: PSDIP8A; Publisher: Altium Limited
footprint PSDIP8A (DIP; 8 Leads; Row Spacing 7.62 mm; Pitch 2.54 mm)
pins: 1 CS (in), 2 SCL (in), 3 D (in), 4 Q (out), 5 GND (power), 6 ORG, 7 DU, 8 VCC (power)

## M93C76MN1
designator U?
8Kb (x8/x16) Serial Microwire Bus EEPROM; Note: Do Not Use pin number 7 (DU).; Published: 24-Aug-2001; LatestRevisionDate: 17-Jul-2002; LatestRevisionNote: Re-released for DXP Platform.; DatasheetDocument: Feb-1999; PackageDocument: Jul-1999; PackageReference: SOP8; Publisher: Altium Limited
footprint SOP8 (Small Outline; 8 Leads; Body Width 3.9 mm; Pitch 1.27 mm)
pins: 1 CS (in), 2 SCL (in), 3 D (in), 4 Q (out), 5 GND (power), 6 ORG, 7 DU, 8 VCC (power)

## M93C76MN3
designator U?
8Kb (x8/x16) Serial Microwire Bus EEPROM; Note: Do Not Use pin number 7 (DU).; Published: 24-Aug-2001; LatestRevisionDate: 17-Jul-2002; LatestRevisionNote: Re-released for DXP Platform.; DatasheetDocument: Feb-1999; PackageDocument: Jul-1999; PackageReference: SOP8; Publisher: Altium Limited
footprint SOP8 (Small Outline; 8 Leads; Body Width 3.9 mm; Pitch 1.27 mm)
pins: 1 CS (in), 2 SCL (in), 3 D (in), 4 Q (out), 5 GND (power), 6 ORG, 7 DU, 8 VCC (power)

## M93C76MN6
designator U?
8Kb (x8/x16) Serial Microwire Bus EEPROM; Note: Do Not Use pin number 7 (DU).; Published: 24-Aug-2001; LatestRevisionDate: 17-Jul-2002; LatestRevisionNote: Re-released for DXP Platform.; DatasheetDocument: Feb-1999; PackageDocument: Jul-1999; PackageReference: SOP8; Publisher: Altium Limited
footprint SOP8 (Small Outline; 8 Leads; Body Width 3.9 mm; Pitch 1.27 mm)
pins: 1 CS (in), 2 SCL (in), 3 D (in), 4 Q (out), 5 GND (power), 6 ORG, 7 DU, 8 VCC (power)

## M93C76RBN1
designator U?
8Kb (x8/x16) Serial Microwire Bus EEPROM; Note: Do Not Use pin number 7 (DU).; Published: 24-Aug-2001; LatestRevisionDate: 17-Jul-2002; LatestRevisionNote: Re-released for DXP Platform.; DatasheetDocument: Feb-1999; PackageDocument: Jun-1998; PackageReference: PSDIP8A; Publisher: Altium Limited
footprint PSDIP8A (DIP; 8 Leads; Row Spacing 7.62 mm; Pitch 2.54 mm)
pins: 1 CS (in), 2 SCL (in), 3 D (in), 4 Q (out), 5 GND (power), 6 ORG, 7 DU, 8 VCC (power)

## M93C76RBN3
designator U?
8Kb (x8/x16) Serial Microwire Bus EEPROM; Note: Do Not Use pin number 7 (DU).; Published: 24-Aug-2001; LatestRevisionDate: 17-Jul-2002; LatestRevisionNote: Re-released for DXP Platform.; DatasheetDocument: Feb-1999; PackageDocument: Jun-1998; PackageReference: PSDIP8A; Publisher: Altium Limited
footprint PSDIP8A (DIP; 8 Leads; Row Spacing 7.62 mm; Pitch 2.54 mm)
pins: 1 CS (in), 2 SCL (in), 3 D (in), 4 Q (out), 5 GND (power), 6 ORG, 7 DU, 8 VCC (power)

## M93C76RBN6
designator U?
8Kb (x8/x16) Serial Microwire Bus EEPROM; Note: Do Not Use pin number 7 (DU).; Published: 24-Aug-2001; LatestRevisionDate: 17-Jul-2002; LatestRevisionNote: Re-released for DXP Platform.; DatasheetDocument: Feb-1999; PackageDocument: Jun-1998; PackageReference: PSDIP8A; Publisher: Altium Limited
footprint PSDIP8A (DIP; 8 Leads; Row Spacing 7.62 mm; Pitch 2.54 mm)
pins: 1 CS (in), 2 SCL (in), 3 D (in), 4 Q (out), 5 GND (power), 6 ORG, 7 DU, 8 VCC (power)

## M93C76RMN1
designator U?
8Kb (x8/x16) Serial Microwire Bus EEPROM; Note: Do Not Use pin number 7 (DU).; Published: 24-Aug-2001; LatestRevisionDate: 17-Jul-2002; LatestRevisionNote: Re-released for DXP Platform.; DatasheetDocument: Feb-1999; PackageDocument: Jul-1999; PackageReference: SOP8; Publisher: Altium Limited
footprint SOP8 (Small Outline; 8 Leads; Body Width 3.9 mm; Pitch 1.27 mm)
pins: 1 CS (in), 2 SCL (in), 3 D (in), 4 Q (out), 5 GND (power), 6 ORG, 7 DU, 8 VCC (power)

## M93C76RMN3
designator U?
8Kb (x8/x16) Serial Microwire Bus EEPROM; Note: Do Not Use pin number 7 (DU).; Published: 24-Aug-2001; LatestRevisionDate: 17-Jul-2002; LatestRevisionNote: Re-released for DXP Platform.; DatasheetDocument: Feb-1999; PackageDocument: Jul-1999; PackageReference: SOP8; Publisher: Altium Limited
footprint SOP8 (Small Outline; 8 Leads; Body Width 3.9 mm; Pitch 1.27 mm)
pins: 1 CS (in), 2 SCL (in), 3 D (in), 4 Q (out), 5 GND (power), 6 ORG, 7 DU, 8 VCC (power)

## M93C76RMN6
designator U?
8Kb (x8/x16) Serial Microwire Bus EEPROM; Note: Do Not Use pin number 7 (DU).; Published: 24-Aug-2001; LatestRevisionDate: 17-Jul-2002; LatestRevisionNote: Re-released for DXP Platform.; DatasheetDocument: Feb-1999; PackageDocument: Jul-1999; PackageReference: SOP8; Publisher: Altium Limited
footprint SOP8 (Small Outline; 8 Leads; Body Width 3.9 mm; Pitch 1.27 mm)
pins: 1 CS (in), 2 SCL (in), 3 D (in), 4 Q (out), 5 GND (power), 6 ORG, 7 DU, 8 VCC (power)

## M93C76WBN1
designator U?
8Kb (x8/x16) Serial Microwire Bus EEPROM; Note: Do Not Use pin number 7 (DU).; Published: 24-Aug-2001; LatestRevisionDate: 17-Jul-2002; LatestRevisionNote: Re-released for DXP Platform.; DatasheetDocument: Feb-1999; PackageDocument: Jun-1998; PackageReference: PSDIP8A; Publisher: Altium Limited
footprint PSDIP8A (DIP; 8 Leads; Row Spacing 7.62 mm; Pitch 2.54 mm)
pins: 1 CS (in), 2 SCL (in), 3 D (in), 4 Q (out), 5 GND (power), 6 ORG, 7 DU, 8 VCC (power)

## M93C76WBN3
designator U?
8Kb (x8/x16) Serial Microwire Bus EEPROM; Note: Do Not Use pin number 7 (DU).; Published: 24-Aug-2001; LatestRevisionDate: 17-Jul-2002; LatestRevisionNote: Re-released for DXP Platform.; DatasheetDocument: Feb-1999; PackageDocument: Jun-1998; PackageReference: PSDIP8A; Publisher: Altium Limited
footprint PSDIP8A (DIP; 8 Leads; Row Spacing 7.62 mm; Pitch 2.54 mm)
pins: 1 CS (in), 2 SCL (in), 3 D (in), 4 Q (out), 5 GND (power), 6 ORG, 7 DU, 8 VCC (power)

## M93C76WBN6
designator U?
8Kb (x8/x16) Serial Microwire Bus EEPROM; Note: Do Not Use pin number 7 (DU).; Published: 24-Aug-2001; LatestRevisionDate: 17-Jul-2002; LatestRevisionNote: Re-released for DXP Platform.; DatasheetDocument: Feb-1999; PackageDocument: Jun-1998; PackageReference: PSDIP8A; Publisher: Altium Limited
footprint PSDIP8A (DIP; 8 Leads; Row Spacing 7.62 mm; Pitch 2.54 mm)
pins: 1 CS (in), 2 SCL (in), 3 D (in), 4 Q (out), 5 GND (power), 6 ORG, 7 DU, 8 VCC (power)

## M93C76WMN1
designator U?
8Kb (x8/x16) Serial Microwire Bus EEPROM; Note: Do Not Use pin number 7 (DU).; Published: 24-Aug-2001; LatestRevisionDate: 17-Jul-2002; LatestRevisionNote: Re-released for DXP Platform.; DatasheetDocument: Feb-1999; PackageDocument: Jul-1999; PackageReference: SOP8; Publisher: Altium Limited
footprint SOP8 (Small Outline; 8 Leads; Body Width 3.9 mm; Pitch 1.27 mm)
pins: 1 CS (in), 2 SCL (in), 3 D (in), 4 Q (out), 5 GND (power), 6 ORG, 7 DU, 8 VCC (power)

## M93C76WMN3
designator U?
8Kb (x8/x16) Serial Microwire Bus EEPROM; Note: Do Not Use pin number 7 (DU).; Published: 24-Aug-2001; LatestRevisionDate: 17-Jul-2002; LatestRevisionNote: Re-released for DXP Platform.; DatasheetDocument: Feb-1999; PackageDocument: Jul-1999; PackageReference: SOP8; Publisher: Altium Limited
footprint SOP8 (Small Outline; 8 Leads; Body Width 3.9 mm; Pitch 1.27 mm)
pins: 1 CS (in), 2 SCL (in), 3 D (in), 4 Q (out), 5 GND (power), 6 ORG, 7 DU, 8 VCC (power)

## M93C76WMN6
designator U?
8Kb (x8/x16) Serial Microwire Bus EEPROM; Note: Do Not Use pin number 7 (DU).; Published: 24-Aug-2001; LatestRevisionDate: 17-Jul-2002; LatestRevisionNote: Re-released for DXP Platform.; DatasheetDocument: Feb-1999; PackageDocument: Jul-1999; PackageReference: SOP8; Publisher: Altium Limited
footprint SOP8 (Small Outline; 8 Leads; Body Width 3.9 mm; Pitch 1.27 mm)
pins: 1 CS (in), 2 SCL (in), 3 D (in), 4 Q (out), 5 GND (power), 6 ORG, 7 DU, 8 VCC (power)

## M93C86BN1
designator U?
16Kb (x8/x16) Serial Microwire Bus EEPROM; Note: Do Not Use pin number 7 (DU).; Published: 24-Aug-2001; LatestRevisionDate: 17-Jul-2002; LatestRevisionNote: Re-released for DXP Platform.; DatasheetDocument: Feb-1999; PackageDocument: Jun-1998; PackageReference: PSDIP8A; Publisher: Altium Limited
footprint PSDIP8A (DIP; 8 Leads; Row Spacing 7.62 mm; Pitch 2.54 mm)
pins: 1 CS (in), 2 SCL (in), 3 D (in), 4 Q (out), 5 GND (power), 6 ORG, 7 DU, 8 VCC (power)

## M93C86BN3
designator U?
16Kb (x8/x16) Serial Microwire Bus EEPROM; Note: Do Not Use pin number 7 (DU).; Published: 24-Aug-2001; LatestRevisionDate: 17-Jul-2002; LatestRevisionNote: Re-released for DXP Platform.; DatasheetDocument: Feb-1999; PackageDocument: Jun-1998; PackageReference: PSDIP8A; Publisher: Altium Limited
footprint PSDIP8A (DIP; 8 Leads; Row Spacing 7.62 mm; Pitch 2.54 mm)
pins: 1 CS (in), 2 SCL (in), 3 D (in), 4 Q (out), 5 GND (power), 6 ORG, 7 DU, 8 VCC (power)

## M93C86BN6
designator U?
16Kb (x8/x16) Serial Microwire Bus EEPROM; Note: Do Not Use pin number 7 (DU).; Published: 24-Aug-2001; LatestRevisionDate: 17-Jul-2002; LatestRevisionNote: Re-released for DXP Platform.; DatasheetDocument: Feb-1999; PackageDocument: Jun-1998; PackageReference: PSDIP8A; Publisher: Altium Limited
footprint PSDIP8A (DIP; 8 Leads; Row Spacing 7.62 mm; Pitch 2.54 mm)
pins: 1 CS (in), 2 SCL (in), 3 D (in), 4 Q (out), 5 GND (power), 6 ORG, 7 DU, 8 VCC (power)

## M93C86MN1
designator U?
16Kb (x8/x16) Serial Microwire Bus EEPROM; Note: Do Not Use pin number 7 (DU).; Published: 24-Aug-2001; LatestRevisionDate: 17-Jul-2002; LatestRevisionNote: Re-released for DXP Platform.; DatasheetDocument: Feb-1999; PackageDocument: Jul-1999; PackageReference: SOP8; Publisher: Altium Limited
footprint SOP8 (Small Outline; 8 Leads; Body Width 3.9 mm; Pitch 1.27 mm)
pins: 1 CS (in), 2 SCL (in), 3 D (in), 4 Q (out), 5 GND (power), 6 ORG, 7 DU, 8 VCC (power)

## M93C86MN3
designator U?
16Kb (x8/x16) Serial Microwire Bus EEPROM; Note: Do Not Use pin number 7 (DU).; Published: 24-Aug-2001; LatestRevisionDate: 17-Jul-2002; LatestRevisionNote: Re-released for DXP Platform.; DatasheetDocument: Feb-1999; PackageDocument: Jul-1999; PackageReference: SOP8; Publisher: Altium Limited
footprint SOP8 (Small Outline; 8 Leads; Body Width 3.9 mm; Pitch 1.27 mm)
pins: 1 CS (in), 2 SCL (in), 3 D (in), 4 Q (out), 5 GND (power), 6 ORG, 7 DU, 8 VCC (power)

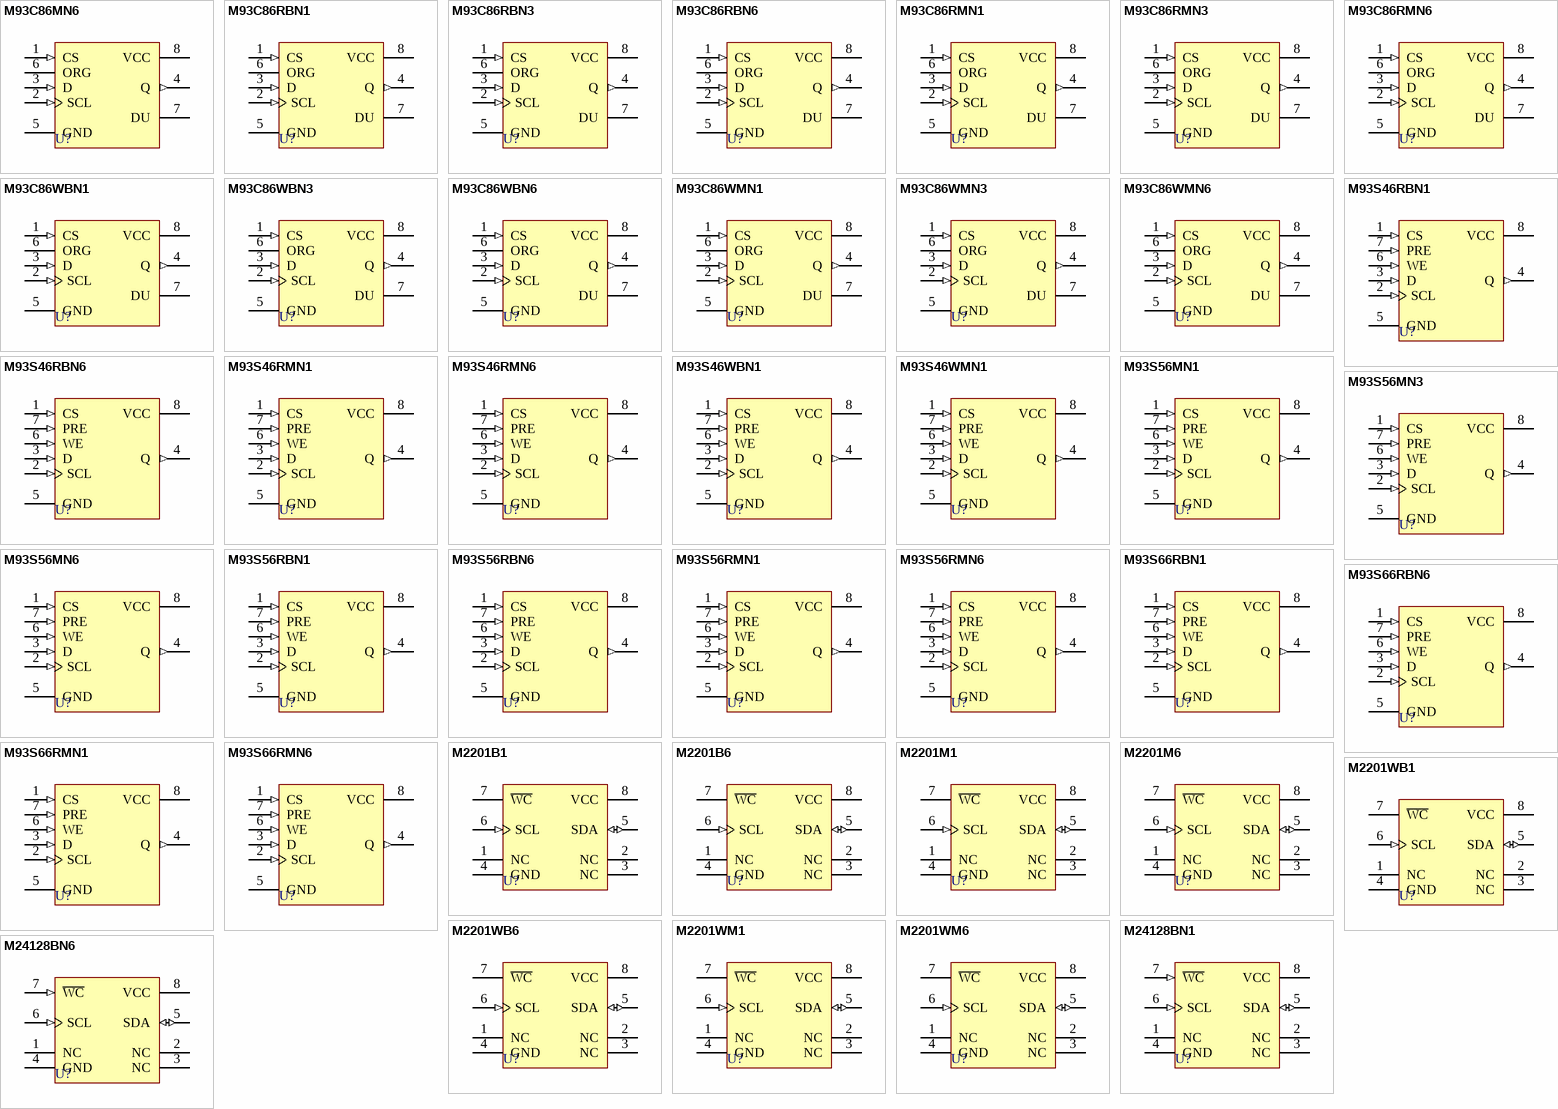
[diagram p5: symbols M93C86MN6 to M24128BN6]

## M93C86MN6
designator U?
16Kb (x8/x16) Serial Microwire Bus EEPROM; Note: Do Not Use pin number 7 (DU).; Published: 24-Aug-2001; LatestRevisionDate: 17-Jul-2002; LatestRevisionNote: Re-released for DXP Platform.; DatasheetDocument: Feb-1999; PackageDocument: Jul-1999; PackageReference: SOP8; Publisher: Altium Limited
footprint SOP8 (Small Outline; 8 Leads; Body Width 3.9 mm; Pitch 1.27 mm)
pins: 1 CS (in), 2 SCL (in), 3 D (in), 4 Q (out), 5 GND (power), 6 ORG, 7 DU, 8 VCC (power)

## M93C86RBN1
designator U?
16Kb (x8/x16) Serial Microwire Bus EEPROM; Note: Do Not Use pin number 7 (DU).; Published: 24-Aug-2001; LatestRevisionDate: 17-Jul-2002; LatestRevisionNote: Re-released for DXP Platform.; DatasheetDocument: Feb-1999; PackageDocument: Jun-1998; PackageReference: PSDIP8A; Publisher: Altium Limited
footprint PSDIP8A (DIP; 8 Leads; Row Spacing 7.62 mm; Pitch 2.54 mm)
pins: 1 CS (in), 2 SCL (in), 3 D (in), 4 Q (out), 5 GND (power), 6 ORG, 7 DU, 8 VCC (power)

## M93C86RBN3
designator U?
16Kb (x8/x16) Serial Microwire Bus EEPROM; Note: Do Not Use pin number 7 (DU).; Published: 24-Aug-2001; LatestRevisionDate: 17-Jul-2002; LatestRevisionNote: Re-released for DXP Platform.; DatasheetDocument: Feb-1999; PackageDocument: Jun-1998; PackageReference: PSDIP8A; Publisher: Altium Limited
footprint PSDIP8A (DIP; 8 Leads; Row Spacing 7.62 mm; Pitch 2.54 mm)
pins: 1 CS (in), 2 SCL (in), 3 D (in), 4 Q (out), 5 GND (power), 6 ORG, 7 DU, 8 VCC (power)

## M93C86RBN6
designator U?
16Kb (x8/x16) Serial Microwire Bus EEPROM; Note: Do Not Use pin number 7 (DU).; Published: 24-Aug-2001; LatestRevisionDate: 17-Jul-2002; LatestRevisionNote: Re-released for DXP Platform.; DatasheetDocument: Feb-1999; PackageDocument: Jun-1998; PackageReference: PSDIP8A; Publisher: Altium Limited
footprint PSDIP8A (DIP; 8 Leads; Row Spacing 7.62 mm; Pitch 2.54 mm)
pins: 1 CS (in), 2 SCL (in), 3 D (in), 4 Q (out), 5 GND (power), 6 ORG, 7 DU, 8 VCC (power)

## M93C86RMN1
designator U?
16Kb (x8/x16) Serial Microwire Bus EEPROM; Note: Do Not Use pin number 7 (DU).; Published: 24-Aug-2001; LatestRevisionDate: 17-Jul-2002; LatestRevisionNote: Re-released for DXP Platform.; DatasheetDocument: Feb-1999; PackageDocument: Jul-1999; PackageReference: SOP8; Publisher: Altium Limited
footprint SOP8 (Small Outline; 8 Leads; Body Width 3.9 mm; Pitch 1.27 mm)
pins: 1 CS (in), 2 SCL (in), 3 D (in), 4 Q (out), 5 GND (power), 6 ORG, 7 DU, 8 VCC (power)

## M93C86RMN3
designator U?
16Kb (x8/x16) Serial Microwire Bus EEPROM; Note: Do Not Use pin number 7 (DU).; Published: 24-Aug-2001; LatestRevisionDate: 17-Jul-2002; LatestRevisionNote: Re-released for DXP Platform.; DatasheetDocument: Feb-1999; PackageDocument: Jul-1999; PackageReference: SOP8; Publisher: Altium Limited
footprint SOP8 (Small Outline; 8 Leads; Body Width 3.9 mm; Pitch 1.27 mm)
pins: 1 CS (in), 2 SCL (in), 3 D (in), 4 Q (out), 5 GND (power), 6 ORG, 7 DU, 8 VCC (power)

## M93C86RMN6
designator U?
16Kb (x8/x16) Serial Microwire Bus EEPROM; Note: Do Not Use pin number 7 (DU).; Published: 24-Aug-2001; LatestRevisionDate: 17-Jul-2002; LatestRevisionNote: Re-released for DXP Platform.; DatasheetDocument: Feb-1999; PackageDocument: Jul-1999; PackageReference: SOP8; Publisher: Altium Limited
footprint SOP8 (Small Outline; 8 Leads; Body Width 3.9 mm; Pitch 1.27 mm)
pins: 1 CS (in), 2 SCL (in), 3 D (in), 4 Q (out), 5 GND (power), 6 ORG, 7 DU, 8 VCC (power)

## M93C86WBN1
designator U?
16Kb (x8/x16) Serial Microwire Bus EEPROM; Note: Do Not Use pin number 7 (DU).; Published: 24-Aug-2001; LatestRevisionDate: 17-Jul-2002; LatestRevisionNote: Re-released for DXP Platform.; DatasheetDocument: Feb-1999; PackageDocument: Jun-1998; PackageReference: PSDIP8A; Publisher: Altium Limited
footprint PSDIP8A (DIP; 8 Leads; Row Spacing 7.62 mm; Pitch 2.54 mm)
pins: 1 CS (in), 2 SCL (in), 3 D (in), 4 Q (out), 5 GND (power), 6 ORG, 7 DU, 8 VCC (power)

## M93C86WBN3
designator U?
16Kb (x8/x16) Serial Microwire Bus EEPROM; Note: Do Not Use pin number 7 (DU).; Published: 24-Aug-2001; LatestRevisionDate: 17-Jul-2002; LatestRevisionNote: Re-released for DXP Platform.; DatasheetDocument: Feb-1999; PackageDocument: Jun-1998; PackageReference: PSDIP8A; Publisher: Altium Limited
footprint PSDIP8A (DIP; 8 Leads; Row Spacing 7.62 mm; Pitch 2.54 mm)
pins: 1 CS (in), 2 SCL (in), 3 D (in), 4 Q (out), 5 GND (power), 6 ORG, 7 DU, 8 VCC (power)

## M93C86WBN6
designator U?
16Kb (x8/x16) Serial Microwire Bus EEPROM; Note: Do Not Use pin number 7 (DU).; Published: 24-Aug-2001; LatestRevisionDate: 17-Jul-2002; LatestRevisionNote: Re-released for DXP Platform.; DatasheetDocument: Feb-1999; PackageDocument: Jun-1998; PackageReference: PSDIP8A; Publisher: Altium Limited
footprint PSDIP8A (DIP; 8 Leads; Row Spacing 7.62 mm; Pitch 2.54 mm)
pins: 1 CS (in), 2 SCL (in), 3 D (in), 4 Q (out), 5 GND (power), 6 ORG, 7 DU, 8 VCC (power)